# EAGLE library part AOZ1284PI (library AOZ1284PI)
IC REG BUCK ADJ 4A 8SO Source: Datasheet <http://datasheet.octopart.com/AOZ1284PI-Alpha-&-Omega-Semiconductor-datasheet-68364838.pdf>
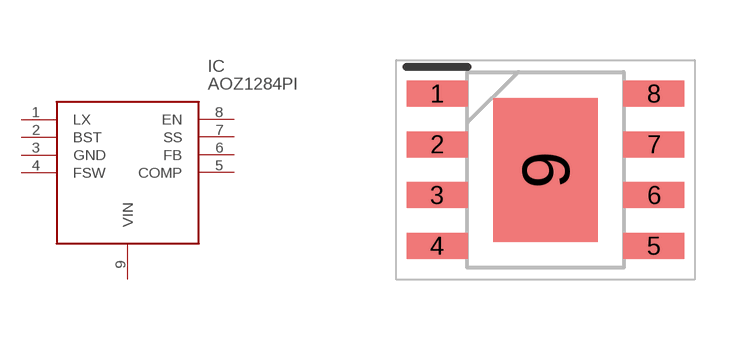
[diagram p0: symbol with the pads of SOIC127P600X170-9N; footprint SOIC127P600X170-9N]

Designator prefix IC

## AOZ1284PI (Description: IC REG BUCK ADJ 4A 8SO; Height: 1.7mm; Manufacturer_Name: Alpha & Omega Semiconductors; Manufacturer_Part_Number: AOZ1284PI)  [SOIC127P600X170-9N]
1  LX
2  BST
3  GND  pwr
4  FSW
5  COMP
6  FB
7  SS
8  EN
9  VIN  pwr

## Footprint SOIC127P600X170-9N (pad centres in mm)
SO-8 EP1
smd 1.525 x 0.65: 1 -2.712,1.905; 2 -2.712,0.635; 3 -2.712,-0.635; 4 -2.712,-1.905; 5 2.712,-1.905; 6 2.712,-0.635; 7 2.712,0.635; 8 2.712,1.905
smd 2.61 x 3.6: 9 0,0